# EAGLE library part RESISTOR-NET_CTS742C083 (library CrazyRemote)
Chip Resistor Array 4 Single Resistor Source: http://www.ctscorp.com/components/Datasheets/CTSChipArrayDs.pdf
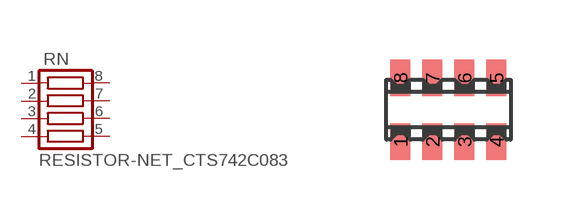
[diagram p11: symbol with the pads of RESISTOR-NET_CTS742C083; footprint RESISTOR-NET_CTS742C083]

Designator prefix RN

## RESISTOR-NET_CTS742C083 (OC_FARNELL: unknown; OC_NEWARK: unknown)  [RESISTOR-NET_CTS742C083]
1  1  pas
2  2  pas
3  3  pas
4  4  pas
5  5  pas
6  6  pas
7  7  pas
8  8  pas

## Footprint RESISTOR-NET_CTS742C083 (pad centres in mm)
Chip Resistor Array Source: http://www.ctscorp.com/components/Datasheets/CTSChipArrayDs.pdf
smd 0.5 x 0.9: 1 -1.2,-0.8; 2 -0.4,-0.8; 3 0.4,-0.8; 4 1.2,-0.8; 5 1.2,0.8; 6 0.4,0.8; 7 -0.4,0.8; 8 -1.2,0.8